# Altium schematic symbol library SCH - SWITCHES - 2-1825027-0.SchLib: 1 symbol
Pins are listed as number, name and electrical type; pins without a type are passive.

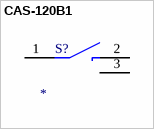
[diagram p0: symbol CAS-120B1]

## CAS-120B1
designator S?
pins: 1 COM1, 2 NO, 3 GND (power)